# Altium schematic symbol library 20_pin_connector.SchLib: 1 symbol
Pins are listed as number, name and electrical type; pins without a type are passive.

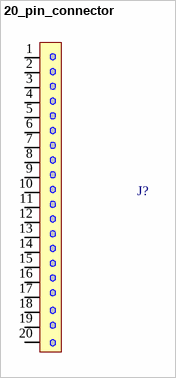
[diagram p0: symbol 20_pin_connector]

## 20_pin_connector
designator J?  (value not drawn)
20_pin 2.54mm connector
footprint 20_pin_connector
pins: 1, 2, 3, 4, 5, 6, 7, 8, 9, 10, 11, 12, 13, 14, 15, 16, 17, 18, 19, 20